# Altium footprint library Interface_IO_ Expanders.PcbLib: 3 footprints
Each footprint in its own frame and in the unit in brackets; x right, y up, seen from the top. Pads: shape width x height; smd on the part's side, far side on the other; paste and mask are expansions set on the pad; w line width, h text height; cw(c..) or ccw(c..) is an arc to the next point about the centre after c.
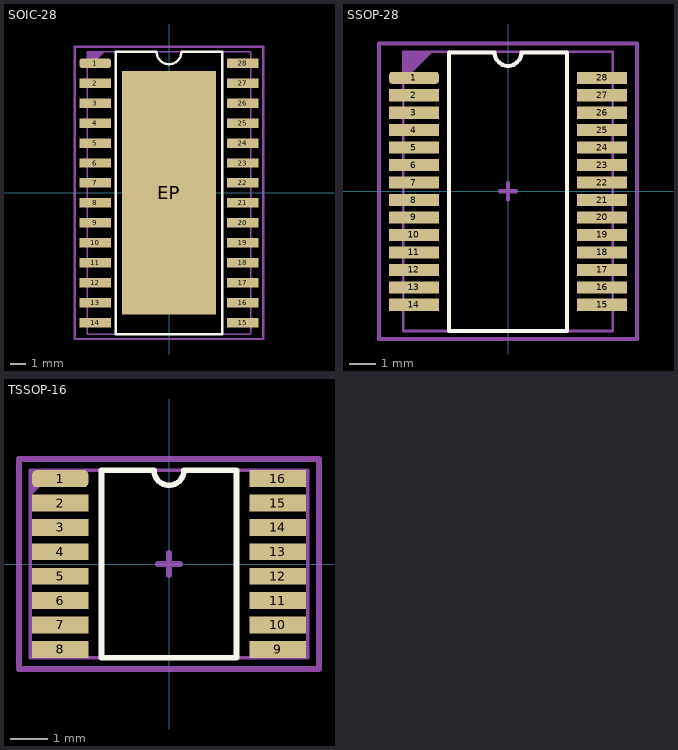
[diagram p0: the footprints below, top view; thin cyan lines are the x and y axes]

## SOIC-28 [mm]
pads (29):
  rrect50% 2x0.6 smd: 1(-4.7,8.255)
  rect 2x0.6 smd: 2(-4.7,6.985) 3(-4.7,5.715) 4(-4.7,4.445) 5(-4.7,3.175) 6(-4.7,1.905) 7(-4.7,0.635) 8(-4.7,-0.635) 9(-4.7,-1.905) 10(-4.7,-3.175) 11(-4.7,-4.445) 12(-4.7,-5.715) 13(-4.7,-6.985) 14(-4.7,-8.255) 15(4.7,-8.255) 16(4.7,-6.985) 17(4.7,-5.715) 18(4.7,-4.445) 19(4.7,-3.175) 20(4.7,-1.905) 21(4.7,-0.635) 22(4.7,0.635) 23(4.7,1.905) 24(4.7,3.175) 25(4.7,4.445) 26(4.7,5.715) 27(4.7,6.985) 28(4.7,8.255)
  rect 6x15.5 smd: EP(0,0)
Top Overlay:
  lines w0.153: -3.4,-9 -3.4,9 -0.8,9 ccw(c0,9) 0.8,9 3.4,9 3.4,-9 -3.4,-9
Top Assembly:
  region: -5.2,9 -5.2,7.9 -4.1,9
  lines w0.1: -5.2,-9 -5.2,9 5.2,9 5.2,-9 -5.2,-9
  text "'.Designator'" at -4.532,-0.333 h0.8
Top Courtyard (Mech6):
  lines w0.153: -0.3,0 0.3,0 ; 0,-0.3 0,0.3 ; -6,-9.3 -6,9.3 6,9.3 6,-9.3 -6,-9.3
3D body "User Library-SOIC28-300.step": height 2.65, standoff 0, extent -5.15,-8.95 5.15,8.95

## SSOP-28 [mm]
pads (28):
  rrect50% 1.85x0.45 smd: 1(-3.5,4.225)
  rect 1.85x0.45 smd: 2(-3.5,3.575) 3(-3.5,2.925) 4(-3.5,2.275) 5(-3.5,1.625) 6(-3.5,0.975) 7(-3.5,0.325) 8(-3.5,-0.325) 9(-3.5,-0.975) 10(-3.5,-1.625) 11(-3.5,-2.275) 12(-3.5,-2.925) 13(-3.5,-3.575) 14(-3.5,-4.225) 15(3.5,-4.225) 16(3.5,-3.575) 17(3.5,-2.925) 18(3.5,-2.275) 19(3.5,-1.625) 20(3.5,-0.975) 21(3.5,-0.325) 22(3.5,0.325) 23(3.5,0.975) 24(3.5,1.625) 25(3.5,2.275) 26(3.5,2.925) 27(3.5,3.575) 28(3.5,4.225)
Top Overlay:
  lines w0.153: -2.2,-5.2 -2.2,5.17 -0.5,5.17 ccw(c0,5.17) 0.5,5.17 2.2,5.17 2.2,-5.2 -2.2,-5.2
Top Assembly:
  region: -3.9,5.2 -3.9,4.1 -2.8,5.2
  lines w0.1: -3.9,-5.2 -3.9,5.2 3.9,5.2 3.9,-5.2 -3.9,-5.2
  text "'.Designator'" at -4.532,-0.333 h0.8
Top Courtyard (Mech6):
  lines w0.153: -0.3,0 0.3,0 ; 0,-0.3 0,0.3 ; -4.8,-5.5 -4.8,5.5 4.8,5.5 4.8,-5.5 -4.8,-5.5
3D body "User Library-SSOP-28-1-1.step": height 2.15, standoff 0, extent -3.878,-5.165 3.878,5.165

## TSSOP-16 [mm]
pads (16):
  rrect50% 1.5x0.45 smd mask+0.05: 1(-2.9,2.275)
  rect 1.5x0.45 smd mask+0.05: 2(-2.9,1.625) 3(-2.9,0.975) 4(-2.9,0.325) 5(-2.9,-0.325) 6(-2.9,-0.975) 7(-2.9,-1.625) 8(-2.9,-2.275) 9(2.9,-2.275) 10(2.9,-1.625) 11(2.9,-0.975) 12(2.9,-0.325) 13(2.9,0.325) 14(2.9,0.975) 15(2.9,1.625) 16(2.9,2.275)
Top Overlay:
  lines w0.153: -1.8,-2.5 -1.8,2.5 -0.4,2.5 ccw(c0,2.5) 0.4,2.5 1.8,2.5 1.8,-2.5 -1.8,-2.5
Top Assembly:
  region: -3.7,2.5 -3,2.5 -3.7,1.8
  lines w0.1: -3.7,-2.5 3.7,-2.5 3.7,2.5 -3.7,2.5 -3.7,-2.5
  text "'.Designator'" at -4.532,-0.333 h0.8
Top Courtyard (Mech6):
  lines w0.153: -0.3,0 0.3,0 ; 0,-0.3 0,0.3 ; -4,-2.8 -4,2.8 4,2.8 4,-2.8 -4,-2.8
3D body "TSSOP-16-1.step": height 1.1, standoff 0, extent -3.2,-2.5 3.2,2.5